# Altium integrated library TI Data Converters Digital to Analog Converter.IntLib: 1533 symbols (part 30 of 99)
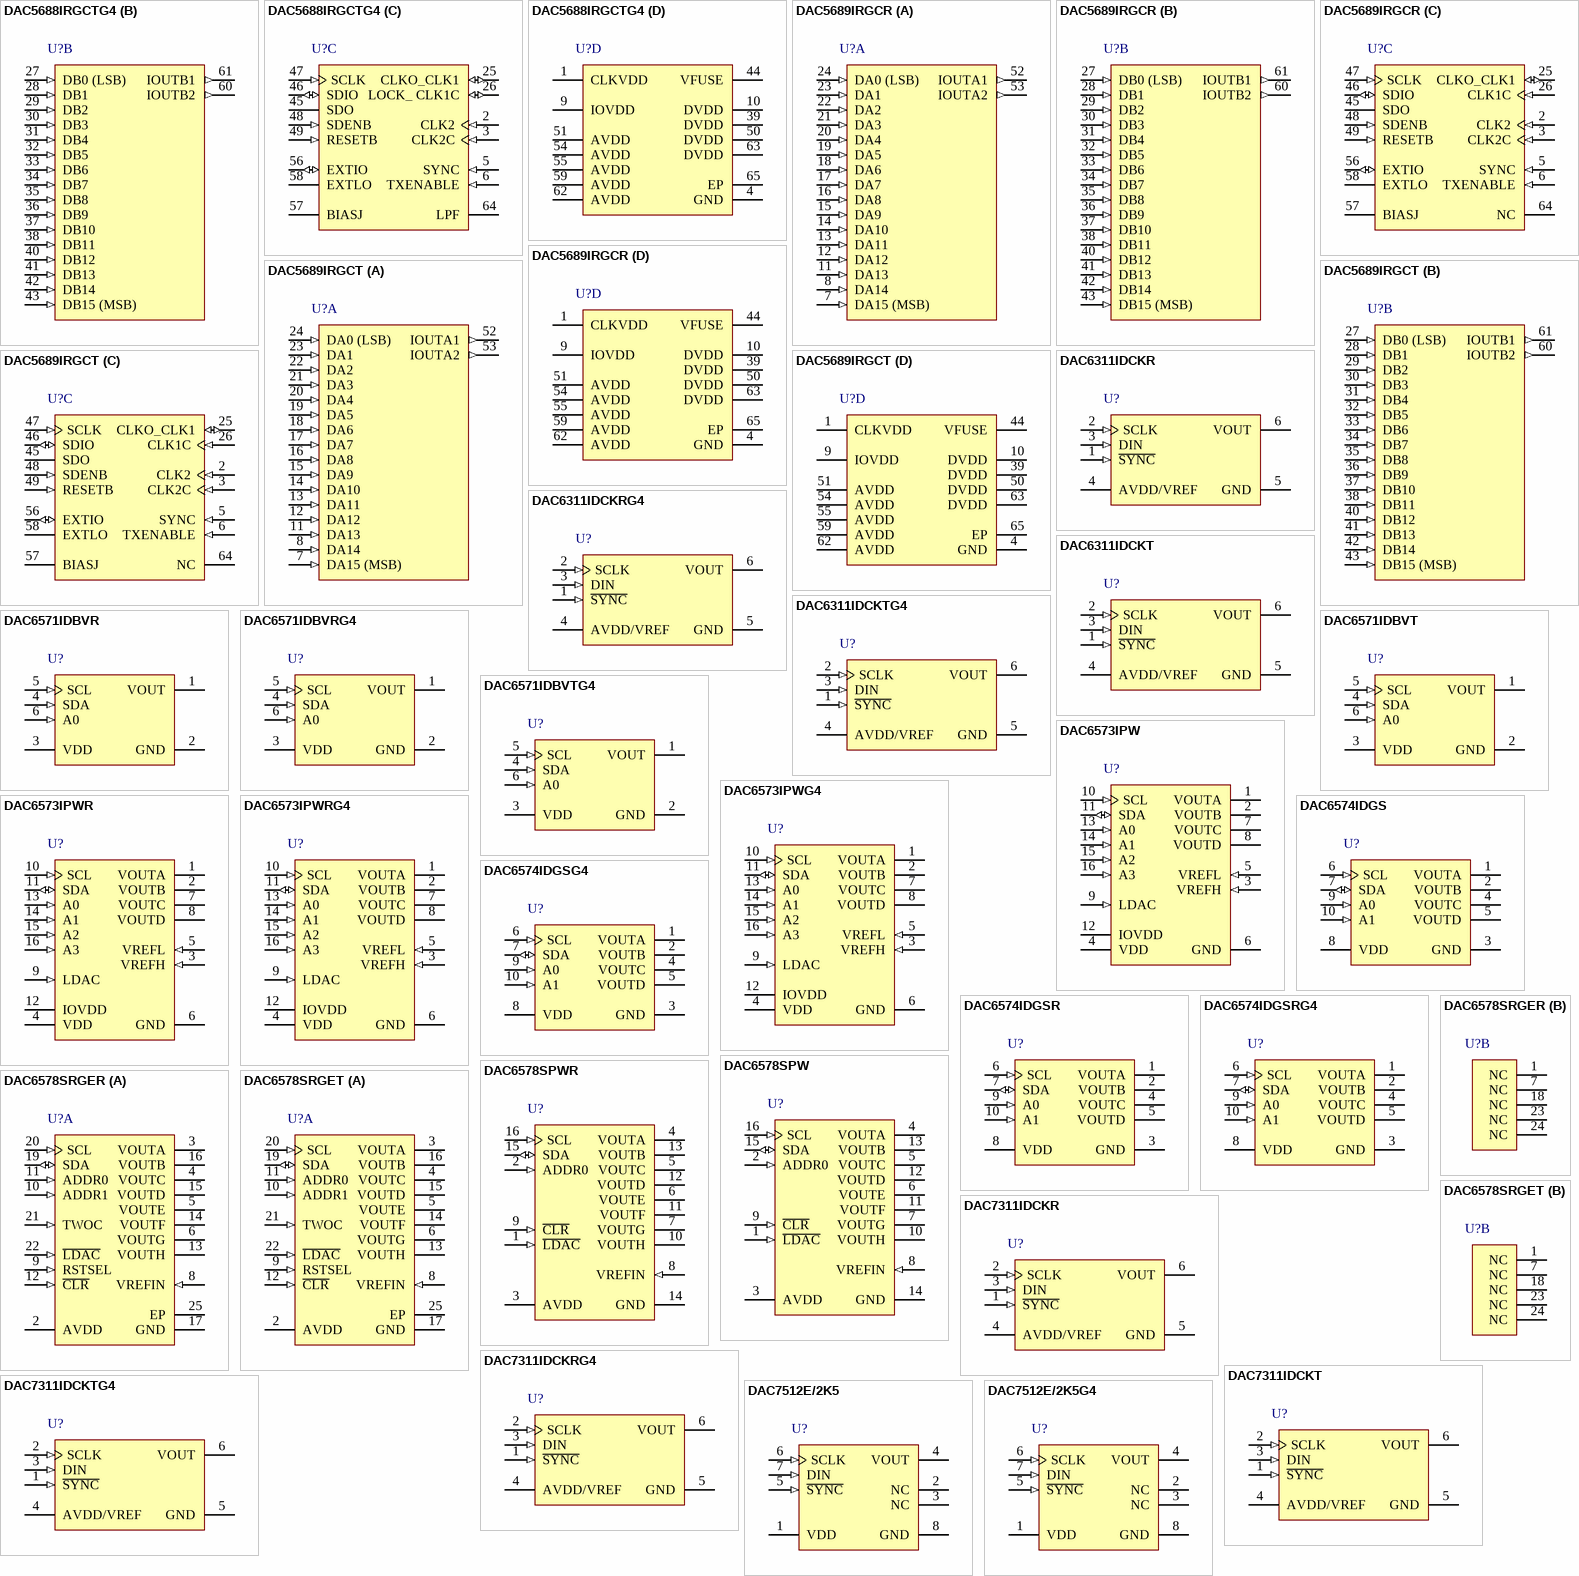
[diagram p102: symbols DAC5688IRGCTG4 to DAC7512E/2K5G4]

## DAC5689IRGCT
designator U?
16-Bit, 800 MSPS 2 x - 8 x Interpolating Dual-Channel DAC, -40 to 85 degC, 64-pin QFN (RGC64), Green (RoHS & no Sb/Br); Manufacturer: Texas Instruments; PartNumber: DAC5689IRGCT; DAC Channels: 2; Interface: Parallel CMOS; Power Consumption(Typ)(mW): 1240; Resolution(Bits): 16; Settling Time(us): 0.0104; SFDR(dB): 79; SNR(dB): 72; SubFamily: High Speed DAC (>10MSPS); DatasheetVersion: SLLS989A; PackageVersion: 4204106/F, 11/2011; PackageReference: RGC64-7400X7400TP; PackageDescription: 64-Pin Plastic Quad Flatpack No-Lead, Body 9 x 9 mm, Pitch 0.5 mm; Supplier 1: Digi-Key; Supplier Part Number 1: 296-25166-2-ND; Supplier 2: Digi-Key; Supplier Part Number 2: 296-25166-1-ND; Supplier 3: Digi-Key; Supplier Part Number 3: 296-25166-6-ND; Supplier 4: Newark; Supplier Part Number 4: 50R7647; Supplier 5: Mouser; Supplier Part Number 5: 595-DAC5689IRGCT; Eco-Plan: Green (RoHS & no Sb/Br); Mounting Technology: Surface Mount; ComponentLink1Description: Manufacturer URL; ComponentLink1URL: http://www.ti.com/; ComponentLink2Description: Datasheet; ComponentLink2URL: http://www.ti.com/general/docs/lit/getliterature.tsp?genericPartNumber=DAC5689&fileType=pdf; ComponentLink3Description: Package Specification; ComponentLink3URL: http://www.ti.com/litv/pdf/mpqf125e
footprint TI-RGC64-7400X7400TP_V (QFN, 64-Leads, Body 9x9mm, Pitch 0.5mm, Thermal Pad 7.4x7.4mm, TI Recommended)
part A pins: 7 DA15 (MSB) (in) "A-Channel Data Bits 0 through 15. DA15 is most significant data bit (MSB) - pin 7  DA0 is least significant data bit (LSB) - pin 24 Internal pull-down. The order of bus can be reversed via CONFIG4 reva bit.", 8 DA14 (in) "A-Channel Data Bits 0 through 15. DA15 is most significant data bit (MSB) - pin 7  DA0 is least significant data bit (LSB) - pin 24 Internal pull-down. The order of bus can be reversed via CONFIG4 reva bit.", 11 DA13 (in) "A-Channel Data Bits 0 through 15. DA15 is most significant data bit (MSB) - pin 7  DA0 is least significant data bit (LSB) - pin 24 Internal pull-down. The order of bus can be reversed via CONFIG4 reva bit.", 12 DA12 (in) "A-Channel Data Bits 0 through 15. DA15 is most significant data bit (MSB) - pin 7  DA0 is least significant data bit (LSB) - pin 24 Internal pull-down. The order of bus can be reversed via CONFIG4 reva bit.", 13 DA11 (in) "A-Channel Data Bits 0 through 15. DA15 is most significant data bit (MSB) - pin 7  DA0 is least significant data bit (LSB) - pin 24 Internal pull-down. The order of bus can be reversed via CONFIG4 reva bit.", 14 DA10 (in) "A-Channel Data Bits 0 through 15. DA15 is most significant data bit (MSB) - pin 7  DA0 is least significant data bit (LSB) - pin 24 Internal pull-down. The order of bus can be reversed via CONFIG4 reva bit.", 15 DA9 (in) "A-Channel Data Bits 0 through 15. DA15 is most significant data bit (MSB) - pin 7  DA0 is least significant data bit (LSB) - pin 24 Internal pull-down. The order of bus can be reversed via CONFIG4 reva bit.", 16 DA8 (in) "A-Channel Data Bits 0 through 15. DA15 is most significant data bit (MSB) - pin 7  DA0 is least significant data bit (LSB) - pin 24 Internal pull-down. The order of bus can be reversed via CONFIG4 reva bit.", 17 DA7 (in) "A-Channel Data Bits 0 through 15. DA15 is most significant data bit (MSB) - pin 7  DA0 is least significant data bit (LSB) - pin 24 Internal pull-down. The order of bus can be reversed via CONFIG4 reva bit.", 18 DA6 (in) "A-Channel Data Bits 0 through 15. DA15 is most significant data bit (MSB) - pin 7  DA0 is least significant data bit (LSB) - pin 24 Internal pull-down. The order of bus can be reversed via CONFIG4 reva bit.", 19 DA5 (in) "A-Channel Data Bits 0 through 15. DA15 is most significant data bit (MSB) - pin 7  DA0 is least significant data bit (LSB) - pin 24 Internal pull-down. The order of bus can be reversed via CONFIG4 reva bit.", 20 DA4 (in) "A-Channel Data Bits 0 through 15. DA15 is most significant data bit (MSB) - pin 7  DA0 is least significant data bit (LSB) - pin 24 Internal pull-down. The order of bus can be reversed via CONFIG4 reva bit.", 21 DA3 (in) "A-Channel Data Bits 0 through 15. DA15 is most significant data bit (MSB) - pin 7  DA0 is least significant data bit (LSB) - pin 24 Internal pull-down. The order of bus can be reversed via CONFIG4 reva bit.", 22 DA2 (in) "A-Channel Data Bits 0 through 15. DA15 is most significant data bit (MSB) - pin 7  DA0 is least significant data bit (LSB) - pin 24 Internal pull-down. The order of bus can be reversed via CONFIG4 reva bit.", 23 DA1 (in) "A-Channel Data Bits 0 through 15. DA15 is most significant data bit (MSB) - pin 7  DA0 is least significant data bit (LSB) - pin 24 Internal pull-down. The order of bus can be reversed via CONFIG4 reva bit.", 24 DA0 (LSB) (in) "A-Channel Data Bits 0 through 15. DA15 is most significant data bit (MSB) - pin 7  DA0 is least significant data bit (LSB) - pin 24 Internal pull-down. The order of bus can be reversed via CONFIG4 reva bit.", 52 IOUTA1 (out) "A-Channel DAC current output. An offset binary data pattern of 0x0000 at the DAC input results in a full scale current sink and the least positive voltage on the IOUTA1 pin. Similarly, a 0xFFFF data input results in a 0 mA (See Datasheet)", 53 IOUTA2 (out) "A-Channel DAC complementary current output. The IOUTA2 has the opposite behavior of the IOUTA1 described above. An input data value of 0x0000 results in a 0mA sink and the most positive. voltage on the IOUTA2 pin."
part B pins: 27 DB0 (LSB) (in) "B-Channel Data Bits 0 through 15  DB15 is most significant data bit (MSB) - pin 43 DB0 is least significant data bit (LSB) - pin 27 Internal pull-down. The order of bus can be reversed via CONFIG4 revb bit.", 28 DB1 (in) "B-Channel Data Bits 0 through 15  DB15 is most significant data bit (MSB) - pin 43 DB0 is least significant data bit (LSB) - pin 27 Internal pull-down. The order of bus can be reversed via CONFIG4 revb bit.", 29 DB2 (in) "B-Channel Data Bits 0 through 15  DB15 is most significant data bit (MSB) - pin 43 DB0 is least significant data bit (LSB) - pin 27 Internal pull-down. The order of bus can be reversed via CONFIG4 revb bit.", 30 DB3 (in) "B-Channel Data Bits 0 through 15  DB15 is most significant data bit (MSB) - pin 43 DB0 is least significant data bit (LSB) - pin 27 Internal pull-down. The order of bus can be reversed via CONFIG4 revb bit.", 31 DB4 (in) "B-Channel Data Bits 0 through 15  DB15 is most significant data bit (MSB) - pin 43 DB0 is least significant data bit (LSB) - pin 27 Internal pull-down. The order of bus can be reversed via CONFIG4 revb bit.", 32 DB5 (in) "B-Channel Data Bits 0 through 15  DB15 is most significant data bit (MSB) - pin 43 DB0 is least significant data bit (LSB) - pin 27 Internal pull-down. The order of bus can be reversed via CONFIG4 revb bit.", 33 DB6 (in) "B-Channel Data Bits 0 through 15  DB15 is most significant data bit (MSB) - pin 43 DB0 is least significant data bit (LSB) - pin 27 Internal pull-down. The order of bus can be reversed via CONFIG4 revb bit.", 34 DB7 (in) "B-Channel Data Bits 0 through 15  DB15 is most significant data bit (MSB) - pin 43 DB0 is least significant data bit (LSB) - pin 27 Internal pull-down. The order of bus can be reversed via CONFIG4 revb bit.", 35 DB8 (in) "B-Channel Data Bits 0 through 15  DB15 is most significant data bit (MSB) - pin 43 DB0 is least significant data bit (LSB) - pin 27 Internal pull-down. The order of bus can be reversed via CONFIG4 revb bit.", 36 DB9 (in) "B-Channel Data Bits 0 through 15  DB15 is most significant data bit (MSB) - pin 43 DB0 is least significant data bit (LSB) - pin 27 Internal pull-down. The order of bus can be reversed via CONFIG4 revb bit.", 37 DB10 (in) "B-Channel Data Bits 0 through 15  DB15 is most significant data bit (MSB) - pin 43 DB0 is least significant data bit (LSB) - pin 27 Internal pull-down. The order of bus can be reversed via CONFIG4 revb bit.", 38 DB11 (in) "B-Channel Data Bits 0 through 15  DB15 is most significant data bit (MSB) - pin 43 DB0 is least significant data bit (LSB) - pin 27 Internal pull-down. The order of bus can be reversed via CONFIG4 revb bit.", 40 DB12 (in) "B-Channel Data Bits 0 through 15  DB15 is most significant data bit (MSB) - pin 43 DB0 is least significant data bit (LSB) - pin 27 Internal pull-down. The order of bus can be reversed via CONFIG4 revb bit.", 41 DB13 (in) "B-Channel Data Bits 0 through 15  DB15 is most significant data bit (MSB) - pin 43 DB0 is least significant data bit (LSB) - pin 27 Internal pull-down. The order of bus can be reversed via CONFIG4 revb bit.", 42 DB14 (in) "B-Channel Data Bits 0 through 15  DB15 is most significant data bit (MSB) - pin 43 DB0 is least significant data bit (LSB) - pin 27 Internal pull-down. The order of bus can be reversed via CONFIG4 revb bit.", 43 DB15 (MSB) (in) "B-Channel Data Bits 0 through 15  DB15 is most significant data bit (MSB) - pin 43 DB0 is least significant data bit (LSB) - pin 27 Internal pull-down. The order of bus can be reversed via CONFIG4 revb bit.", 60 IOUTB2 (out) "B-Channel DAC complementary current output. Refer to IOUTA2 description above.", 61 IOUTB1 (out) "B-Channel DAC current output. Refer to IOUTA1 description above."
part C pins: 2 CLK2 (in) "Positive DAC clock input. Accepts frequencies up to 800MHz.", 3 CLK2C (in) "Complementary CLK2 input.", 5 SYNC (in) "Optional SYNC input for internal clock dividers, FIFO, NCO and QMC blocks. Internal pull-down.", 6 TXENABLE (in) "Transmit enable input. Internal pull-down. TXENABLE must be high for the DATA to the DAC to be enabled. When TXENABLE is low, the digital logic section is forced to all 0, and any input data is gnored.", 25 CLKO_CLK1 (io) "In Dual Clock Mode can be used to provide the lower frequency input clock. The lower frequency clock can be differential or single-ended. If single-ended CLK1 can be used as the clock input.CLK1C must be AC coupled to GND in (See Datasheet)", 26 CLK1C (in) "In Dual Clock Mode can be used to provide the lower frequency input clock. The lower frequency clock can be differential or single-ended. If differential, CLK1C is the complementary clock input. If single-ended it can be (See Datasheet)", 45 SDO (hiz) "Uni-directional serial interface data in 4-pin mode (CONFIG5 sif4). The SDO pin is 3-stated in 3-pin interface mode (default). Internal pull-down.", 46 SDIO (io) "Bi-directional serial data in 3-pin mode (default). In 4-pin interface mode (CONFIG5 sif4), the SDIO pin is an input only. Internal pull-down.", 47 SCLK (in) "Serial interface clock. Internal pull-down.", 48 SDENB (in) "Active low serial data enable, always an input to the DAC5689. Internal pull-up.", 49 RESETB (in) "Resets the chip when low. Internal pull-up.", 56 EXTIO (io) "Used as external reference input when internal reference is disabled (i.e., EXTLO connected to AVDD). Used as internal reference output when EXTLO = GND, requires a 0.1uF decoupling capacitor to GND when used as reference (See Datasheet)", 57 BIASJ "Full-scale output current bias. For 20mA full-scale output current, connect a 960 ohm resistor to GND.", 58 EXTLO "Connect to GND for internal reference, or AVDD for external reference.", 64 NC "No connect. Leave open for proper operation."
part D pins: 1 CLKVDD (power) "Internal clock buffer supply voltage. (1.8V) It is recommended to isolate this supply from DVDD.", 4 GND (power) "Pin 4 and the Thermal Pad located on the bottom of the QFN package is ground for AVDD, DVDD and IOVDD supplies.", 9 IOVDD (power) "3.3V supply voltage for all digital I/O. Note: This supply input should remain at 3.3V regardless of the 1.8V or 3.3V selectable digital input switching thresholds via CONFIG26 io_1p8_3p3.", 10 DVDD (power) "Digital supply voltage. (1.8V) For best performance it is recommended to isolate pins 10 and 39 from all other 1.8V supplies.", 39 DVDD (power) "Digital supply voltage. (1.8V) For best performance it is recommended to isolate pins 10 and 39 from all other 1.8V supplies.", 44 VFUSE (power) "Digital supply voltage. (1.8V) This supply pin is also used for factory fuse programming. Connect to DVDD pins for normal operation.", 50 DVDD (power) "Digital supply voltage. (1.8V) For best performance it is recommended to isolate pins 10 and 39 from all other 1.8V supplies.", 51 AVDD (power) "Analog supply voltage. (3.3V)", 54 AVDD (power) "Analog supply voltage. (3.3V)", 55 AVDD (power) "Analog supply voltage. (3.3V)", 59 AVDD (power) "Analog supply voltage. (3.3V)", 62 AVDD (power) "Analog supply voltage. (3.3V)", 63 DVDD (power) "Digital supply voltage. (1.8V) For best performance it is recommended to isolate pins 10 and 39 from all other 1.8V supplies.", 65 EP (power) "Pin 4 and the Thermal Pad located on the bottom of the QFN package is ground for AVDD, DVDD and IOVDD supplies."

## DAC6311IDCKR
designator U?
10-Bit, Single Channel, 80 uA, 1.8 to 5.5 V DAC, -40 to 125 degC, 6-pin SOT23 (DCK6), Green (RoHS & no Sb/Br); Manufacturer: Texas Instruments; PartNumber: DAC6311IDCKR; DAC Channels: 1; DNL(Max)(+/-LSB): 0.5; Interface: Serial SPI; Power Consumption(Typ)(mW): 0.14; Resolution(Bits): 10; Settling Time(us): 6; SFDR(dB): 65; SNR(dB): 81; SubFamily: Precision DAC (=<10MSPS); DatasheetVersion: SBAS442B; PackageVersion: 4093553-4/G, 01/2007; PackageReference: DCK6; PackageDescription: 6-Pin Plastic Small Outline, Body 2 x 1.25 mm, Pitch 0.65 mm; Supplier 1: Digi-Key; Supplier Part Number 1: DAC6311IDCKR-ND; Supplier 2: Mouser; Supplier Part Number 2: 595-DAC6311IDCKR; Eco-Plan: Green (RoHS & no Sb/Br); INL(Max)(+/-LSB): 0.5; Mounting Technology: Surface Mount; Code_JEDEC: MO-203; ComponentLink1Description: Manufacturer URL; ComponentLink1URL: http://www.ti.com/; ComponentLink2Description: Datasheet; ComponentLink2URL: http://www.ti.com/general/docs/lit/getliterature.tsp?genericPartNumber=DAC6311&fileType=pdf; ComponentLink3Description: Package Specification; ComponentLink3URL: http://www.ti.com/litv/pdf/mpds114c
footprint TI-DCK6_V (SOT23, 6-Leads, Body 2x1.25mm, Pitch 0.65mm)
pins: 1 ~{SYNC} (in) "Level-triggered control input (active low). This is the frame sychronization signal for the input data. When S\Y\N\C\ goes low, it enables the input shift register and data are transferred in on the falling edges of the 1 (See Datasheet)", 2 SCLK (in) "Serial Clock Input. Data can be transferred at rates up to 50MHz.", 3 DIN (in) "Serial Data Input. Data is clocked into the 16-bit input shift register on the falling edge of the serial clock input.", 4 AVDD/VREF (power) "Power Supply Input, +2.7V to 5.5V.", 5 GND (power) "Ground reference point for all circuitry on the part", 6 VOUT (hiz) "Analog output voltage from DAC. The output amplifier has rail-to-rail operation."

## DAC6311IDCKRG4
designator U?
10-Bit, Single Channel, 80 uA, 1.8 to 5.5 V DAC, -40 to 125 degC, 6-pin SOT23 (DCK6), Green (RoHS & no Sb/Br); Manufacturer: Texas Instruments; PartNumber: DAC6311IDCKRG4; DAC Channels: 1; DNL(Max)(+/-LSB): 0.5; Interface: Serial SPI; Power Consumption(Typ)(mW): 0.14; Resolution(Bits): 10; Settling Time(us): 6; SFDR(dB): 65; SNR(dB): 81; SubFamily: Precision DAC (=<10MSPS); DatasheetVersion: SBAS442B; PackageVersion: 4093553-4/G, 01/2007; PackageReference: DCK6; PackageDescription: 6-Pin Plastic Small Outline, Body 2 x 1.25 mm, Pitch 0.65 mm; Supplier 1: Digi-Key; Supplier Part Number 1: DAC6311IDCKRG4-ND; Supplier 2: Mouser; Supplier Part Number 2: 595-DAC6311IDCKRG4; Eco-Plan: Green (RoHS & no Sb/Br); INL(Max)(+/-LSB): 0.5; Mounting Technology: Surface Mount; Code_JEDEC: MO-203; ComponentLink1Description: Manufacturer URL; ComponentLink1URL: http://www.ti.com/; ComponentLink2Description: Datasheet; ComponentLink2URL: http://www.ti.com/general/docs/lit/getliterature.tsp?genericPartNumber=DAC6311&fileType=pdf; ComponentLink3Description: Package Specification; ComponentLink3URL: http://www.ti.com/litv/pdf/mpds114c
footprint TI-DCK6_V (SOT23, 6-Leads, Body 2x1.25mm, Pitch 0.65mm)
pins: 1 ~{SYNC} (in) "Level-triggered control input (active low). This is the frame sychronization signal for the input data. When S\Y\N\C\ goes low, it enables the input shift register and data are transferred in on the falling edges of the 1 (See Datasheet)", 2 SCLK (in) "Serial Clock Input. Data can be transferred at rates up to 50MHz.", 3 DIN (in) "Serial Data Input. Data is clocked into the 16-bit input shift register on the falling edge of the serial clock input.", 4 AVDD/VREF (power) "Power Supply Input, +2.7V to 5.5V.", 5 GND (power) "Ground reference point for all circuitry on the part", 6 VOUT (hiz) "Analog output voltage from DAC. The output amplifier has rail-to-rail operation."

## DAC6311IDCKT
designator U?
10-Bit, Single Channel, 80 uA, 1.8 to 5.5 V DAC, -40 to 125 degC, 6-pin SOT23 (DCK6), Green (RoHS & no Sb/Br); Manufacturer: Texas Instruments; PartNumber: DAC6311IDCKT; DAC Channels: 1; DNL(Max)(+/-LSB): 0.5; Interface: Serial SPI; Power Consumption(Typ)(mW): 0.14; Resolution(Bits): 10; Settling Time(us): 6; SFDR(dB): 65; SNR(dB): 81; SubFamily: Precision DAC (=<10MSPS); DatasheetVersion: SBAS442B; PackageVersion: 4093553-4/G, 01/2007; PackageReference: DCK6; PackageDescription: 6-Pin Plastic Small Outline, Body 2 x 1.25 mm, Pitch 0.65 mm; Supplier 1: Digi-Key; Supplier Part Number 1: 296-23716-2-ND; Supplier 2: Digi-Key; Supplier Part Number 2: 296-23716-1-ND; Supplier 3: Digi-Key; Supplier Part Number 3: 296-23716-6-ND; Supplier 4: Farnell; Supplier Part Number 4: 1679762; Supplier 5: Newark; Supplier Part Number 5: 33P6825; Supplier 6: Newark; Supplier Part Number 6: 08P4364; Supplier 7: Mouser; Supplier Part Number 7: 595-DAC6311IDCKT; Eco-Plan: Green (RoHS & no Sb/Br); INL(Max)(+/-LSB): 0.5; Mounting Technology: Surface Mount; Code_JEDEC: MO-203; ComponentLink1Description: Manufacturer URL; ComponentLink1URL: http://www.ti.com/; ComponentLink2Description: Datasheet; ComponentLink2URL: http://www.ti.com/general/docs/lit/getliterature.tsp?genericPartNumber=DAC6311&fileType=pdf; ComponentLink3Description: Package Specification; ComponentLink3URL: http://www.ti.com/litv/pdf/mpds114c
footprint TI-DCK6_V (SOT23, 6-Leads, Body 2x1.25mm, Pitch 0.65mm)
pins: 1 ~{SYNC} (in) "Level-triggered control input (active low). This is the frame sychronization signal for the input data. When S\Y\N\C\ goes low, it enables the input shift register and data are transferred in on the falling edges of the 1 (See Datasheet)", 2 SCLK (in) "Serial Clock Input. Data can be transferred at rates up to 50MHz.", 3 DIN (in) "Serial Data Input. Data is clocked into the 16-bit input shift register on the falling edge of the serial clock input.", 4 AVDD/VREF (power) "Power Supply Input, +2.7V to 5.5V.", 5 GND (power) "Ground reference point for all circuitry on the part", 6 VOUT (hiz) "Analog output voltage from DAC. The output amplifier has rail-to-rail operation."

## DAC6311IDCKTG4
designator U?
10-Bit, Single Channel, 80 uA, 1.8 to 5.5 V DAC, -40 to 125 degC, 6-pin SOT23 (DCK6), Green (RoHS & no Sb/Br); Manufacturer: Texas Instruments; PartNumber: DAC6311IDCKTG4; DAC Channels: 1; DNL(Max)(+/-LSB): 0.5; Interface: Serial SPI; Power Consumption(Typ)(mW): 0.14; Resolution(Bits): 10; Settling Time(us): 6; SFDR(dB): 65; SNR(dB): 81; SubFamily: Precision DAC (=<10MSPS); DatasheetVersion: SBAS442B; PackageVersion: 4093553-4/G, 01/2007; PackageReference: DCK6; PackageDescription: 6-Pin Plastic Small Outline, Body 2 x 1.25 mm, Pitch 0.65 mm; Supplier 1: Digi-Key; Supplier Part Number 1: DAC6311IDCKTG4-ND; Supplier 2: Mouser; Supplier Part Number 2: 595-DAC6311IDCKTG4; Eco-Plan: Green (RoHS & no Sb/Br); INL(Max)(+/-LSB): 0.5; Mounting Technology: Surface Mount; Code_JEDEC: MO-203; ComponentLink1Description: Manufacturer URL; ComponentLink1URL: http://www.ti.com/; ComponentLink2Description: Datasheet; ComponentLink2URL: http://www.ti.com/general/docs/lit/getliterature.tsp?genericPartNumber=DAC6311&fileType=pdf; ComponentLink3Description: Package Specification; ComponentLink3URL: http://www.ti.com/litv/pdf/mpds114c
footprint TI-DCK6_V (SOT23, 6-Leads, Body 2x1.25mm, Pitch 0.65mm)
pins: 1 ~{SYNC} (in) "Level-triggered control input (active low). This is the frame sychronization signal for the input data. When S\Y\N\C\ goes low, it enables the input shift register and data are transferred in on the falling edges of the 1 (See Datasheet)", 2 SCLK (in) "Serial Clock Input. Data can be transferred at rates up to 50MHz.", 3 DIN (in) "Serial Data Input. Data is clocked into the 16-bit input shift register on the falling edge of the serial clock input.", 4 AVDD/VREF (power) "Power Supply Input, +2.7V to 5.5V.", 5 GND (power) "Ground reference point for all circuitry on the part", 6 VOUT (hiz) "Analog output voltage from DAC. The output amplifier has rail-to-rail operation."

## DAC6571IDBVR
designator U?
10-Bit DAC, -40 to 105 degC, 6-pin SOT23 (DBV6), Green (RoHS & no Sb/Br); Manufacturer: Texas Instruments; PartNumber: DAC6571IDBVR; DAC Channels: 1; DNL(Max)(+/-LSB): 0.5; INL(Max)(+/-LSB): 2; Interface: Serial I2C; Power Consumption(Typ)(mW): 160; Resolution(Bits): 10; Settling Time(us): 9; SubFamily: Precision DAC (=<10MSPS); DatasheetVersion: SLAS406B; PackageVersion: 4073253-5/K, 03/2006; PackageReference: DBV6; PackageDescription: 6-Pin Plastic Small Outline, Body 1.6 x 2.9 mm, Pitch 0.95 mm; Supplier 1: Digi-Key; Supplier Part Number 1: DAC6571IDBVR-ND; Supplier 2: Newark; Supplier Part Number 2: 90H1176; Supplier 3: Mouser; Supplier Part Number 3: 595-DAC6571IDBVR; Eco-Plan: Green (RoHS & no Sb/Br); Mounting Technology: Surface Mount; Code_JEDEC: MO-178; ComponentLink1Description: Manufacturer URL; ComponentLink1URL: http://www.ti.com/; ComponentLink2Description: Datasheet; ComponentLink2URL: http://www.ti.com/general/docs/lit/getliterature.tsp?genericPartNumber=DAC6571&fileType=pdf; ComponentLink3Description: Package Specification; ComponentLink3URL: http://www.ti.com/litv/pdf/mpds026h
footprint TI-DBV6_N (SOT23, 6-Leads, Body 2.9x1.6mm, Pitch 0.95mm, IPC Medium Density)
footprint TI-DBV6_L (SOT23, 6-Leads, Body 2.9x1.6mm, Pitch 0.95mm, IPC High Density)
footprint TI-DBV6_M (SOT23, 6-Leads, Body 2.9x1.6mm, Pitch 0.95mm, IPC Low Density)
pins: 1 VOUT (hiz) "Analog output voltage from DAC", 2 GND (power) "Ground reference point for all circuitry on the part", 3 VDD (power) "Analog Voltage Supply Input", 4 SDA (in) "Serial Data Input", 5 SCL (in) "Serial Clock Input", 6 A0 (in) "Device Address Select"

## DAC6571IDBVRG4
designator U?
10-Bit DAC, -40 to 105 degC, 6-pin SOT23 (DBV6), Green (RoHS & no Sb/Br); Manufacturer: Texas Instruments; PartNumber: DAC6571IDBVRG4; DAC Channels: 1; DNL(Max)(+/-LSB): 0.5; INL(Max)(+/-LSB): 2; Interface: Serial I2C; Power Consumption(Typ)(mW): 160; Resolution(Bits): 10; Settling Time(us): 9; SubFamily: Precision DAC (=<10MSPS); DatasheetVersion: SLAS406B; PackageVersion: 4073253-5/K, 03/2006; PackageReference: DBV6; PackageDescription: 6-Pin Plastic Small Outline, Body 1.6 x 2.9 mm, Pitch 0.95 mm; Supplier 1: Digi-Key; Supplier Part Number 1: DAC6571IDBVRG4-ND; Supplier 2: Mouser; Supplier Part Number 2: 595-DAC6571IDBVRG4; Eco-Plan: Green (RoHS & no Sb/Br); Mounting Technology: Surface Mount; Code_JEDEC: MO-178; ComponentLink1Description: Manufacturer URL; ComponentLink1URL: http://www.ti.com/; ComponentLink2Description: Datasheet; ComponentLink2URL: http://www.ti.com/general/docs/lit/getliterature.tsp?genericPartNumber=DAC6571&fileType=pdf; ComponentLink3Description: Package Specification; ComponentLink3URL: http://www.ti.com/litv/pdf/mpds026h
footprint TI-DBV6_N (SOT23, 6-Leads, Body 2.9x1.6mm, Pitch 0.95mm, IPC Medium Density)
footprint TI-DBV6_L (SOT23, 6-Leads, Body 2.9x1.6mm, Pitch 0.95mm, IPC High Density)
footprint TI-DBV6_M (SOT23, 6-Leads, Body 2.9x1.6mm, Pitch 0.95mm, IPC Low Density)
pins: 1 VOUT (hiz) "Analog output voltage from DAC", 2 GND (power) "Ground reference point for all circuitry on the part", 3 VDD (power) "Analog Voltage Supply Input", 4 SDA (in) "Serial Data Input", 5 SCL (in) "Serial Clock Input", 6 A0 (in) "Device Address Select"

## DAC6571IDBVT
designator U?
10-Bit DAC, -40 to 105 degC, 6-pin SOT23 (DBV6), Green (RoHS & no Sb/Br); Manufacturer: Texas Instruments; PartNumber: DAC6571IDBVT; DAC Channels: 1; DNL(Max)(+/-LSB): 0.5; INL(Max)(+/-LSB): 2; Interface: Serial I2C; Power Consumption(Typ)(mW): 160; Resolution(Bits): 10; Settling Time(us): 9; SubFamily: Precision DAC (=<10MSPS); DatasheetVersion: SLAS406B; PackageVersion: 4073253-5/K, 03/2006; PackageReference: DBV6; PackageDescription: 6-Pin Plastic Small Outline, Body 1.6 x 2.9 mm, Pitch 0.95 mm; Supplier 1: Digi-Key; Supplier Part Number 1: 296-18413-2-ND; Supplier 2: Digi-Key; Supplier Part Number 2: 296-18413-1-ND; Supplier 3: Digi-Key; Supplier Part Number 3: 296-18413-6-ND; Supplier 4: Farnell; Supplier Part Number 4: 1212268; Supplier 5: Newark; Supplier Part Number 5: 90H1177; Supplier 6: Mouser; Supplier Part Number 6: 595-DAC6571IDBVT; Eco-Plan: Green (RoHS & no Sb/Br); Mounting Technology: Surface Mount; Code_JEDEC: MO-178; ComponentLink1Description: Manufacturer URL; ComponentLink1URL: http://www.ti.com/; ComponentLink2Description: Datasheet; ComponentLink2URL: http://www.ti.com/general/docs/lit/getliterature.tsp?genericPartNumber=DAC6571&fileType=pdf; ComponentLink3Description: Package Specification; ComponentLink3URL: http://www.ti.com/litv/pdf/mpds026h
footprint TI-DBV6_N (SOT23, 6-Leads, Body 2.9x1.6mm, Pitch 0.95mm, IPC Medium Density)
footprint TI-DBV6_L (SOT23, 6-Leads, Body 2.9x1.6mm, Pitch 0.95mm, IPC High Density)
footprint TI-DBV6_M (SOT23, 6-Leads, Body 2.9x1.6mm, Pitch 0.95mm, IPC Low Density)
pins: 1 VOUT (hiz) "Analog output voltage from DAC", 2 GND (power) "Ground reference point for all circuitry on the part", 3 VDD (power) "Analog Voltage Supply Input", 4 SDA (in) "Serial Data Input", 5 SCL (in) "Serial Clock Input", 6 A0 (in) "Device Address Select"

## DAC6571IDBVTG4
designator U?
10-Bit DAC, -40 to 105 degC, 6-pin SOT23 (DBV6), Green (RoHS & no Sb/Br); Manufacturer: Texas Instruments; PartNumber: DAC6571IDBVTG4; DAC Channels: 1; DNL(Max)(+/-LSB): 0.5; INL(Max)(+/-LSB): 2; Interface: Serial I2C; Power Consumption(Typ)(mW): 160; Resolution(Bits): 10; Settling Time(us): 9; SubFamily: Precision DAC (=<10MSPS); DatasheetVersion: SLAS406B; PackageVersion: 4073253-5/K, 03/2006; PackageReference: DBV6; PackageDescription: 6-Pin Plastic Small Outline, Body 1.6 x 2.9 mm, Pitch 0.95 mm; Supplier 1: Digi-Key; Supplier Part Number 1: DAC6571IDBVTG4-ND; Supplier 2: Mouser; Supplier Part Number 2: 595-DAC6571IDBVTG4; Eco-Plan: Green (RoHS & no Sb/Br); Mounting Technology: Surface Mount; Code_JEDEC: MO-178; ComponentLink1Description: Manufacturer URL; ComponentLink1URL: http://www.ti.com/; ComponentLink2Description: Datasheet; ComponentLink2URL: http://www.ti.com/general/docs/lit/getliterature.tsp?genericPartNumber=DAC6571&fileType=pdf; ComponentLink3Description: Package Specification; ComponentLink3URL: http://www.ti.com/litv/pdf/mpds026h
footprint TI-DBV6_N (SOT23, 6-Leads, Body 2.9x1.6mm, Pitch 0.95mm, IPC Medium Density)
footprint TI-DBV6_L (SOT23, 6-Leads, Body 2.9x1.6mm, Pitch 0.95mm, IPC High Density)
footprint TI-DBV6_M (SOT23, 6-Leads, Body 2.9x1.6mm, Pitch 0.95mm, IPC Low Density)
pins: 1 VOUT (hiz) "Analog output voltage from DAC", 2 GND (power) "Ground reference point for all circuitry on the part", 3 VDD (power) "Analog Voltage Supply Input", 4 SDA (in) "Serial Data Input", 5 SCL (in) "Serial Clock Input", 6 A0 (in) "Device Address Select"

## DAC6573IPW
designator U?
10-Bit, Quad DAC with I2C Interface, -40 to 85 degC, 16-pin SOP (PW16), Green (RoHS & no Sb/Br); Manufacturer: Texas Instruments; PartNumber: DAC6573IPW; DAC Channels: 4; DNL(Max)(+/-LSB): 0.5; Interface: Serial I2C; Resolution(Bits): 10; Settling Time(us): 7; SubFamily: Precision DAC (=<10MSPS); DatasheetVersion: SLAS402; PackageVersion: 4040064-4/G, 02/2011; PackageReference: PW16; PackageDescription: 16-Pin Plastic Small Outline, Body 5 x 4.4 mm, Pitch 0.65 mm; Supplier 1: Digi-Key; Supplier Part Number 1: 296-16637-5-ND; Supplier 2: Farnell; Supplier Part Number 2: 8408475; Supplier 3: Newark; Supplier Part Number 3: 24M1264; Supplier 4: Newark; Supplier Part Number 4: 90H1178; Supplier 5: Mouser; Supplier Part Number 5: 595-DAC6573IPW; Eco-Plan: Green (RoHS & no Sb/Br); Mounting Technology: Surface Mount; Code_JEDEC: MO-153; ComponentLink1Description: Manufacturer URL; ComponentLink1URL: http://www.ti.com/; ComponentLink2Description: Datasheet; ComponentLink2URL: http://www.ti.com/general/docs/lit/getliterature.tsp?genericPartNumber=DAC6573&fileType=pdf; ComponentLink3Description: Package Specification; ComponentLink3URL: http://www.ti.com/lit/ml/mpds361/mpds361.pdf
footprint TI-PW16_N (SOP, 16-Leads, Body 5x4.4mm, Pitch 0.65mm, IPC Medium Density)
footprint TI-PW16_L (SOP, 16-Leads, Body 5x4.4mm, Pitch 0.65mm, IPC High Density)
footprint TI-PW16_M (SOP, 16-Leads, Body 5x4.4mm, Pitch 0.65mm, IPC Low Density)
pins: 1 VOUTA (hiz) "Analog output voltage from DAC A", 2 VOUTB (hiz) "Analog output voltage from DAC B", 3 VREFH (in) "Positive reference voltage input", 4 VDD (power) "Analog voltage supply input", 5 VREFL (in) "Negative reference voltage input", 6 GND (power) "Ground reference point for all circuitry on the part", 7 VOUTC (hiz) "Analog output voltage from DAC C", 8 VOUTD (hiz) "Analog output voltage from DAC D", 9 LDAC (in) "H/W synchronous VOUT update", 10 SCL (in) "Serial clock input", 11 SDA (io) "Serial data input", 12 IOVDD (power) "I/O voltage supply input", 13 A0 (in) "Device address select - I2C", 14 A1 (in) "Device address select - I2C", 15 A2 (in) "Device address select - Extended", 16 A3 (in) "Device address select - Extended"

## DAC6573IPWG4
designator U?
10-Bit, Quad DAC with I2C Interface, -40 to 85 degC, 16-pin SOP (PW16), Green (RoHS & no Sb/Br); Manufacturer: Texas Instruments; PartNumber: DAC6573IPWG4; DAC Channels: 4; DNL(Max)(+/-LSB): 0.5; Interface: Serial I2C; Resolution(Bits): 10; Settling Time(us): 7; SubFamily: Precision DAC (=<10MSPS); DatasheetVersion: SLAS402; PackageVersion: 4040064-4/G, 02/2011; PackageReference: PW16; PackageDescription: 16-Pin Plastic Small Outline, Body 5 x 4.4 mm, Pitch 0.65 mm; Supplier 1: Digi-Key; Supplier Part Number 1: DAC6573IPWG4-ND; Supplier 2: Newark; Supplier Part Number 2: 66K1924; Supplier 3: Mouser; Supplier Part Number 3: 595-DAC6573IPWG4; Eco-Plan: Green (RoHS & no Sb/Br); Mounting Technology: Surface Mount; Code_JEDEC: MO-153; ComponentLink1Description: Manufacturer URL; ComponentLink1URL: http://www.ti.com/; ComponentLink2Description: Datasheet; ComponentLink2URL: http://www.ti.com/general/docs/lit/getliterature.tsp?genericPartNumber=DAC6573&fileType=pdf; ComponentLink3Description: Package Specification; ComponentLink3URL: http://www.ti.com/lit/ml/mpds361/mpds361.pdf
footprint TI-PW16_N (SOP, 16-Leads, Body 5x4.4mm, Pitch 0.65mm, IPC Medium Density)
footprint TI-PW16_L (SOP, 16-Leads, Body 5x4.4mm, Pitch 0.65mm, IPC High Density)
footprint TI-PW16_M (SOP, 16-Leads, Body 5x4.4mm, Pitch 0.65mm, IPC Low Density)
pins: 1 VOUTA (hiz) "Analog output voltage from DAC A", 2 VOUTB (hiz) "Analog output voltage from DAC B", 3 VREFH (in) "Positive reference voltage input", 4 VDD (power) "Analog voltage supply input", 5 VREFL (in) "Negative reference voltage input", 6 GND (power) "Ground reference point for all circuitry on the part", 7 VOUTC (hiz) "Analog output voltage from DAC C", 8 VOUTD (hiz) "Analog output voltage from DAC D", 9 LDAC (in) "H/W synchronous VOUT update", 10 SCL (in) "Serial clock input", 11 SDA (io) "Serial data input", 12 IOVDD (power) "I/O voltage supply input", 13 A0 (in) "Device address select - I2C", 14 A1 (in) "Device address select - I2C", 15 A2 (in) "Device address select - Extended", 16 A3 (in) "Device address select - Extended"

## DAC6573IPWR
designator U?
10-Bit, Quad DAC with I2C Interface, -40 to 85 degC, 16-pin SOP (PW16), Green (RoHS & no Sb/Br); Manufacturer: Texas Instruments; PartNumber: DAC6573IPWR; DAC Channels: 4; DNL(Max)(+/-LSB): 0.5; Interface: Serial I2C; Resolution(Bits): 10; Settling Time(us): 7; SubFamily: Precision DAC (=<10MSPS); DatasheetVersion: SLAS402; PackageVersion: 4040064-4/G, 02/2011; PackageReference: PW16; PackageDescription: 16-Pin Plastic Small Outline, Body 5 x 4.4 mm, Pitch 0.65 mm; Supplier 1: Digi-Key; Supplier Part Number 1: DAC6573IPWR-ND; Supplier 2: Newark; Supplier Part Number 2: 90H1179; Supplier 3: Mouser; Supplier Part Number 3: 595-DAC6573IPWR; Eco-Plan: Green (RoHS & no Sb/Br); Mounting Technology: Surface Mount; Code_JEDEC: MO-153; ComponentLink1Description: Manufacturer URL; ComponentLink1URL: http://www.ti.com/; ComponentLink2Description: Datasheet; ComponentLink2URL: http://www.ti.com/general/docs/lit/getliterature.tsp?genericPartNumber=DAC6573&fileType=pdf; ComponentLink3Description: Package Specification; ComponentLink3URL: http://www.ti.com/lit/ml/mpds361/mpds361.pdf
footprint TI-PW16_N (SOP, 16-Leads, Body 5x4.4mm, Pitch 0.65mm, IPC Medium Density)
footprint TI-PW16_L (SOP, 16-Leads, Body 5x4.4mm, Pitch 0.65mm, IPC High Density)
footprint TI-PW16_M (SOP, 16-Leads, Body 5x4.4mm, Pitch 0.65mm, IPC Low Density)
pins: 1 VOUTA (hiz) "Analog output voltage from DAC A", 2 VOUTB (hiz) "Analog output voltage from DAC B", 3 VREFH (in) "Positive reference voltage input", 4 VDD (power) "Analog voltage supply input", 5 VREFL (in) "Negative reference voltage input", 6 GND (power) "Ground reference point for all circuitry on the part", 7 VOUTC (hiz) "Analog output voltage from DAC C", 8 VOUTD (hiz) "Analog output voltage from DAC D", 9 LDAC (in) "H/W synchronous VOUT update", 10 SCL (in) "Serial clock input", 11 SDA (io) "Serial data input", 12 IOVDD (power) "I/O voltage supply input", 13 A0 (in) "Device address select - I2C", 14 A1 (in) "Device address select - I2C", 15 A2 (in) "Device address select - Extended", 16 A3 (in) "Device address select - Extended"

## DAC6573IPWRG4
designator U?
10-Bit, Quad DAC with I2C Interface, -40 to 85 degC, 16-pin SOP (PW16), Green (RoHS & no Sb/Br); Manufacturer: Texas Instruments; PartNumber: DAC6573IPWRG4; DAC Channels: 4; DNL(Max)(+/-LSB): 0.5; Interface: Serial I2C; Resolution(Bits): 10; Settling Time(us): 7; SubFamily: Precision DAC (=<10MSPS); DatasheetVersion: SLAS402; PackageVersion: 4040064-4/G, 02/2011; PackageReference: PW16; PackageDescription: 16-Pin Plastic Small Outline, Body 5 x 4.4 mm, Pitch 0.65 mm; Supplier 1: Digi-Key; Supplier Part Number 1: DAC6573IPWRG4-ND; Supplier 2: Mouser; Supplier Part Number 2: 595-DAC6573IPWRG4; Eco-Plan: Green (RoHS & no Sb/Br); Mounting Technology: Surface Mount; Code_JEDEC: MO-153; ComponentLink1Description: Manufacturer URL; ComponentLink1URL: http://www.ti.com/; ComponentLink2Description: Datasheet; ComponentLink2URL: http://www.ti.com/general/docs/lit/getliterature.tsp?genericPartNumber=DAC6573&fileType=pdf; ComponentLink3Description: Package Specification; ComponentLink3URL: http://www.ti.com/lit/ml/mpds361/mpds361.pdf
footprint TI-PW16_N (SOP, 16-Leads, Body 5x4.4mm, Pitch 0.65mm, IPC Medium Density)
footprint TI-PW16_L (SOP, 16-Leads, Body 5x4.4mm, Pitch 0.65mm, IPC High Density)
footprint TI-PW16_M (SOP, 16-Leads, Body 5x4.4mm, Pitch 0.65mm, IPC Low Density)
pins: 1 VOUTA (hiz) "Analog output voltage from DAC A", 2 VOUTB (hiz) "Analog output voltage from DAC B", 3 VREFH (in) "Positive reference voltage input", 4 VDD (power) "Analog voltage supply input", 5 VREFL (in) "Negative reference voltage input", 6 GND (power) "Ground reference point for all circuitry on the part", 7 VOUTC (hiz) "Analog output voltage from DAC C", 8 VOUTD (hiz) "Analog output voltage from DAC D", 9 LDAC (in) "H/W synchronous VOUT update", 10 SCL (in) "Serial clock input", 11 SDA (io) "Serial data input", 12 IOVDD (power) "I/O voltage supply input", 13 A0 (in) "Device address select - I2C", 14 A1 (in) "Device address select - I2C", 15 A2 (in) "Device address select - Extended", 16 A3 (in) "Device address select - Extended"

## DAC6574IDGS
designator U?
10-Bit, Quad DAC with I2C Interface, -40 to 85 degC, 10-pin SOP (DGS10), Green (RoHS & no Sb/Br); Manufacturer: Texas Instruments; PartNumber: DAC6574IDGS; DAC Channels: 4; DNL(Max)(+/-LSB): 0.5; Interface: Serial I2C; Resolution(Bits): 10; Settling Time(us): 7; SubFamily: Precision DAC (=<10MSPS); DatasheetVersion: SLAS408; PackageVersion: 4073272/C, 02/2004; PackageReference: DGS10; PackageDescription: 10-Pin Plastic Small Outline, Body 3 x 3 mm, Pitch 0.5 mm; Supplier 1: Digi-Key; Supplier Part Number 1: 296-16666-5-ND; Supplier 2: Newark; Supplier Part Number 2: 90H1180; Supplier 3: Mouser; Supplier Part Number 3: 595-DAC6574IDGS; Eco-Plan: Green (RoHS & no Sb/Br); Mounting Technology: Surface Mount; Code_JEDEC: MO-153; ComponentLink1Description: Manufacturer URL; ComponentLink1URL: http://www.ti.com/; ComponentLink2Description: Datasheet; ComponentLink2URL: http://www.ti.com/general/docs/lit/getliterature.tsp?genericPartNumber=DAC6574&fileType=pdf; ComponentLink3Description: Package Specification; ComponentLink3URL: http://www.ti.com/lit/ml/mpds035b/mpds035b.pdf
footprint TI-DGS10_N (SOP, 10-Leads, Body 3x3mm, Pitch 0.5mm, IPC Medium Density)
footprint TI-DGS10_L (SOP, 10-Leads, Body 3x3mm, Pitch 0.5mm, IPC High Density)
footprint TI-DGS10_M (SOP, 10-Leads, Body 3x3mm, Pitch 0.5mm, IPC Low Density)
pins: 1 VOUTA (hiz) "Analog output voltage from DAC A", 2 VOUTB (hiz) "Analog output voltage from DAC B", 3 GND (power) "Ground reference point for all circuitry on the part", 4 VOUTC (hiz) "Analog output voltage from DAC C", 5 VOUTD (hiz) "Analog output voltage from DAC D", 6 SCL (in) "Serial clock input", 7 SDA (io) "Serial data input and output", 8 VDD (power) "Analog voltage supply input", 9 A0 (in) "Device address select - I2C", 10 A1 (in) "Device address select - I2C"

## DAC6574IDGSG4
designator U?
10-Bit, Quad DAC with I2C Interface, -40 to 85 degC, 10-pin SOP (DGS10), Green (RoHS & no Sb/Br); Manufacturer: Texas Instruments; PartNumber: DAC6574IDGSG4; DAC Channels: 4; DNL(Max)(+/-LSB): 0.5; Interface: Serial I2C; Resolution(Bits): 10; Settling Time(us): 7; SubFamily: Precision DAC (=<10MSPS); DatasheetVersion: SLAS408; PackageVersion: 4073272/C, 02/2004; PackageReference: DGS10; PackageDescription: 10-Pin Plastic Small Outline, Body 3 x 3 mm, Pitch 0.5 mm; Supplier 1: Digi-Key; Supplier Part Number 1: DAC6574IDGSG4-ND; Supplier 2: Farnell; Supplier Part Number 2: 1206851; Supplier 3: Newark; Supplier Part Number 3: 96K8414; Supplier 4: Mouser; Supplier Part Number 4: 595-DAC6574IDGSG4; Eco-Plan: Green (RoHS & no Sb/Br); Mounting Technology: Surface Mount; Code_JEDEC: MO-153; ComponentLink1Description: Manufacturer URL; ComponentLink1URL: http://www.ti.com/; ComponentLink2Description: Datasheet; ComponentLink2URL: http://www.ti.com/general/docs/lit/getliterature.tsp?genericPartNumber=DAC6574&fileType=pdf; ComponentLink3Description: Package Specification; ComponentLink3URL: http://www.ti.com/lit/ml/mpds035b/mpds035b.pdf
footprint TI-DGS10_N (SOP, 10-Leads, Body 3x3mm, Pitch 0.5mm, IPC Medium Density)
footprint TI-DGS10_L (SOP, 10-Leads, Body 3x3mm, Pitch 0.5mm, IPC High Density)
footprint TI-DGS10_M (SOP, 10-Leads, Body 3x3mm, Pitch 0.5mm, IPC Low Density)
pins: 1 VOUTA (hiz) "Analog output voltage from DAC A", 2 VOUTB (hiz) "Analog output voltage from DAC B", 3 GND (power) "Ground reference point for all circuitry on the part", 4 VOUTC (hiz) "Analog output voltage from DAC C", 5 VOUTD (hiz) "Analog output voltage from DAC D", 6 SCL (in) "Serial clock input", 7 SDA (io) "Serial data input and output", 8 VDD (power) "Analog voltage supply input", 9 A0 (in) "Device address select - I2C", 10 A1 (in) "Device address select - I2C"

## DAC6574IDGSR
designator U?
10-Bit, Quad DAC with I2C Interface, -40 to 85 degC, 10-pin SOP (DGS10), Green (RoHS & no Sb/Br); Manufacturer: Texas Instruments; PartNumber: DAC6574IDGSR; DAC Channels: 4; DNL(Max)(+/-LSB): 0.5; Interface: Serial I2C; Resolution(Bits): 10; Settling Time(us): 7; SubFamily: Precision DAC (=<10MSPS); DatasheetVersion: SLAS408; PackageVersion: 4073272/C, 02/2004; PackageReference: DGS10; PackageDescription: 10-Pin Plastic Small Outline, Body 3 x 3 mm, Pitch 0.5 mm; Supplier 1: Digi-Key; Supplier Part Number 1: DAC6574IDGSR-ND; Supplier 2: Newark; Supplier Part Number 2: 90H1181; Supplier 3: Mouser; Supplier Part Number 3: 595-DAC6574IDGSR; Eco-Plan: Green (RoHS & no Sb/Br); Mounting Technology: Surface Mount; Code_JEDEC: MO-153; ComponentLink1Description: Manufacturer URL; ComponentLink1URL: http://www.ti.com/; ComponentLink2Description: Datasheet; ComponentLink2URL: http://www.ti.com/general/docs/lit/getliterature.tsp?genericPartNumber=DAC6574&fileType=pdf; ComponentLink3Description: Package Specification; ComponentLink3URL: http://www.ti.com/lit/ml/mpds035b/mpds035b.pdf
footprint TI-DGS10_N (SOP, 10-Leads, Body 3x3mm, Pitch 0.5mm, IPC Medium Density)
footprint TI-DGS10_L (SOP, 10-Leads, Body 3x3mm, Pitch 0.5mm, IPC High Density)
footprint TI-DGS10_M (SOP, 10-Leads, Body 3x3mm, Pitch 0.5mm, IPC Low Density)
pins: 1 VOUTA (hiz) "Analog output voltage from DAC A", 2 VOUTB (hiz) "Analog output voltage from DAC B", 3 GND (power) "Ground reference point for all circuitry on the part", 4 VOUTC (hiz) "Analog output voltage from DAC C", 5 VOUTD (hiz) "Analog output voltage from DAC D", 6 SCL (in) "Serial clock input", 7 SDA (io) "Serial data input and output", 8 VDD (power) "Analog voltage supply input", 9 A0 (in) "Device address select - I2C", 10 A1 (in) "Device address select - I2C"

## DAC6574IDGSRG4
designator U?
10-Bit, Quad DAC with I2C Interface, -40 to 85 degC, 10-pin SOP (DGS10), Green (RoHS & no Sb/Br); Manufacturer: Texas Instruments; PartNumber: DAC6574IDGSRG4; DAC Channels: 4; DNL(Max)(+/-LSB): 0.5; Interface: Serial I2C; Resolution(Bits): 10; Settling Time(us): 7; SubFamily: Precision DAC (=<10MSPS); DatasheetVersion: SLAS408; PackageVersion: 4073272/C, 02/2004; PackageReference: DGS10; PackageDescription: 10-Pin Plastic Small Outline, Body 3 x 3 mm, Pitch 0.5 mm; Supplier 1: Digi-Key; Supplier Part Number 1: DAC6574IDGSRG4-ND; Supplier 2: Mouser; Supplier Part Number 2: 595-DAC6574IDGSRG4; Eco-Plan: Green (RoHS & no Sb/Br); Mounting Technology: Surface Mount; Code_JEDEC: MO-153; ComponentLink1Description: Manufacturer URL; ComponentLink1URL: http://www.ti.com/; ComponentLink2Description: Datasheet; ComponentLink2URL: http://www.ti.com/general/docs/lit/getliterature.tsp?genericPartNumber=DAC6574&fileType=pdf; ComponentLink3Description: Package Specification; ComponentLink3URL: http://www.ti.com/lit/ml/mpds035b/mpds035b.pdf
footprint TI-DGS10_N (SOP, 10-Leads, Body 3x3mm, Pitch 0.5mm, IPC Medium Density)
footprint TI-DGS10_L (SOP, 10-Leads, Body 3x3mm, Pitch 0.5mm, IPC High Density)
footprint TI-DGS10_M (SOP, 10-Leads, Body 3x3mm, Pitch 0.5mm, IPC Low Density)
pins: 1 VOUTA (hiz) "Analog output voltage from DAC A", 2 VOUTB (hiz) "Analog output voltage from DAC B", 3 GND (power) "Ground reference point for all circuitry on the part", 4 VOUTC (hiz) "Analog output voltage from DAC C", 5 VOUTD (hiz) "Analog output voltage from DAC D", 6 SCL (in) "Serial clock input", 7 SDA (io) "Serial data input and output", 8 VDD (power) "Analog voltage supply input", 9 A0 (in) "Device address select - I2C", 10 A1 (in) "Device address select - I2C"

## DAC6578SPW
designator U?
10-Bit, Octal Channel, Ultra-Low Glitch, Voltage Output, 2-Wire Interface DAC, -40 to 125 degC, 16-pin SOP (PW16), Green (RoHS & no Sb/Br); Manufacturer: Texas Instruments; PartNumber: DAC6578SPW; DAC Channels: 8; DNL(Max)(+/-LSB): 0.5; Interface: Serial I2C; Power Consumption(Typ)(mW): 3.67; Resolution(Bits): 10; Settling Time(us): 7; SubFamily: Precision DAC (=<10MSPS); DatasheetVersion: SBAS496A; PackageVersion: 4040064-4/G, 02/2011; PackageReference: PW16; PackageDescription: 16-Pin Plastic Small Outline, Body 5 x 4.4 mm, Pitch 0.65 mm; Supplier 1: Digi-Key; Supplier Part Number 1: 296-27738-5-ND; Supplier 2: Farnell; Supplier Part Number 2: 1855107; Supplier 3: Newark; Supplier Part Number 3: 23T0807; Supplier 4: Newark; Supplier Part Number 4: 01T0030; Supplier 5: Mouser; Supplier Part Number 5: 595-DAC6578SPW; Eco-Plan: Green (RoHS & no Sb/Br); INL(Max)(+/-LSB): 0.5; Mounting Technology: Surface Mount; Code_JEDEC: MO-153; ComponentLink1Description: Manufacturer URL; ComponentLink1URL: http://www.ti.com/; ComponentLink2Description: Datasheet; ComponentLink2URL: http://www.ti.com/general/docs/lit/getliterature.tsp?genericPartNumber=DAC6578&fileType=pdf; ComponentLink3Description: Package Specification; ComponentLink3URL: http://www.ti.com/lit/ml/mpds361/mpds361.pdf
footprint TI-PW16_N (SOP, 16-Leads, Body 5x4.4mm, Pitch 0.65mm, IPC Medium Density)
footprint TI-PW16_L (SOP, 16-Leads, Body 5x4.4mm, Pitch 0.65mm, IPC High Density)
footprint TI-PW16_M (SOP, 16-Leads, Body 5x4.4mm, Pitch 0.65mm, IPC Low Density)
pins: 1 ~{LDAC} (in) "Load DACs", 2 ADDR0 (in) "3-state address input", 3 AVDD (power) "Power-supply input, 2.7V to 5.5V", 4 VOUTA (hiz) "Analog output voltage from DAC A", 5 VOUTC (hiz) "Analog output voltage from DAC C", 6 VOUTE (hiz) "Analog output voltage from DAC E", 7 VOUTG (hiz) "Analog output voltage from DAC G", 8 VREFIN (in) "Positive reference input", 9 ~{CLR} (in) "Asynchronous clear input", 10 VOUTH (hiz) "Analog output voltage from DAC H", 11 VOUTF (hiz) "Analog output voltage from DAC F", 12 VOUTD (hiz) "Analog output voltage from DAC D", 13 VOUTB (hiz) "Analog output voltage from DAC B", 14 GND (power) "Ground reference point for all circuitry on the device", 15 SDA (io) "Serial data input. Data are clocked into or out of the input register. This pin is a bidirectional, open-drain data line that should be connected to the supply voltage with an external pull-up resistor.", 16 SCL (in) "Serial clock input. Data can be transferred at rates up to 3.4MHz. Schmitt-trigger logic input."

## DAC6578SPWR
designator U?
10-Bit, Octal Channel, Ultra-Low Glitch, Voltage Output, 2-Wire Interface DAC, -40 to 125 degC, 16-pin SOP (PW16), Green (RoHS & no Sb/Br); Manufacturer: Texas Instruments; PartNumber: DAC6578SPWR; DAC Channels: 8; DNL(Max)(+/-LSB): 0.5; Interface: Serial I2C; Power Consumption(Typ)(mW): 3.67; Resolution(Bits): 10; Settling Time(us): 7; SubFamily: Precision DAC (=<10MSPS); DatasheetVersion: SBAS496A; PackageVersion: 4040064-4/G, 02/2011; PackageReference: PW16; PackageDescription: 16-Pin Plastic Small Outline, Body 5 x 4.4 mm, Pitch 0.65 mm; Supplier 1: Digi-Key; Supplier Part Number 1: DAC6578SPWR-ND; Supplier 2: Farnell; Supplier Part Number 2: 1854519; Supplier 3: Newark; Supplier Part Number 3: 01T0031; Supplier 4: Mouser; Supplier Part Number 4: 595-DAC6578SPWR; Eco-Plan: Green (RoHS & no Sb/Br); INL(Max)(+/-LSB): 0.5; Mounting Technology: Surface Mount; Code_JEDEC: MO-153; ComponentLink1Description: Manufacturer URL; ComponentLink1URL: http://www.ti.com/; ComponentLink2Description: Datasheet; ComponentLink2URL: http://www.ti.com/general/docs/lit/getliterature.tsp?genericPartNumber=DAC6578&fileType=pdf; ComponentLink3Description: Package Specification; ComponentLink3URL: http://www.ti.com/lit/ml/mpds361/mpds361.pdf
footprint TI-PW16_N (SOP, 16-Leads, Body 5x4.4mm, Pitch 0.65mm, IPC Medium Density)
footprint TI-PW16_L (SOP, 16-Leads, Body 5x4.4mm, Pitch 0.65mm, IPC High Density)
footprint TI-PW16_M (SOP, 16-Leads, Body 5x4.4mm, Pitch 0.65mm, IPC Low Density)
pins: 1 ~{LDAC} (in) "Load DACs", 2 ADDR0 (in) "3-state address input", 3 AVDD (power) "Power-supply input, 2.7V to 5.5V", 4 VOUTA (hiz) "Analog output voltage from DAC A", 5 VOUTC (hiz) "Analog output voltage from DAC C", 6 VOUTE (hiz) "Analog output voltage from DAC E", 7 VOUTG (hiz) "Analog output voltage from DAC G", 8 VREFIN (in) "Positive reference input", 9 ~{CLR} (in) "Asynchronous clear input", 10 VOUTH (hiz) "Analog output voltage from DAC H", 11 VOUTF (hiz) "Analog output voltage from DAC F", 12 VOUTD (hiz) "Analog output voltage from DAC D", 13 VOUTB (hiz) "Analog output voltage from DAC B", 14 GND (power) "Ground reference point for all circuitry on the device", 15 SDA (io) "Serial data input. Data are clocked into or out of the input register. This pin is a bidirectional, open-drain data line that should be connected to the supply voltage with an external pull-up resistor.", 16 SCL (in) "Serial clock input. Data can be transferred at rates up to 3.4MHz. Schmitt-trigger logic input."